# Altium schematic symbol library SMCJ440A.SchLib: 1 symbol
Pins are listed as number, name and electrical type; pins without a type are passive.

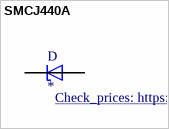
[diagram p0: symbol SMCJ440A]

## SMCJ440A
designator D
713V Clamp 2.1A Ipp Tvs Diode Surface Mount DO-214AB (SMCJ); MF: Littelfuse; MP: SMCJ440A; Value: *; Availability: Warning; Price: None; SnapEDA_Link: https://www.snapeda.com/parts/SMCJ440A/Littelfuse%20Inc/view-part/797272/?ref=snap; Mouser-Purchase-URL: https://snapeda.com/shop?store=Mouser&id=797272; Package: DO-214 Bourns; Check_prices: https://www.snapeda.com/parts/SMCJ440A/Littelfuse%20Inc/view-part/797272/?ref=eda
footprint DIOM7959X262N
pins: A, C